# Altium footprint library supercap.PCBLIB: 487 footprints (part 11 of 31)
Each footprint in its own frame and in the unit in brackets; x right, y up, seen from the top. Pads: shape width x height; smd on the part's side, far side on the other; paste and mask are expansions set on the pad; w line width, h text height; cw(c..) or ccw(c..) is an arc to the next point about the centre after c.
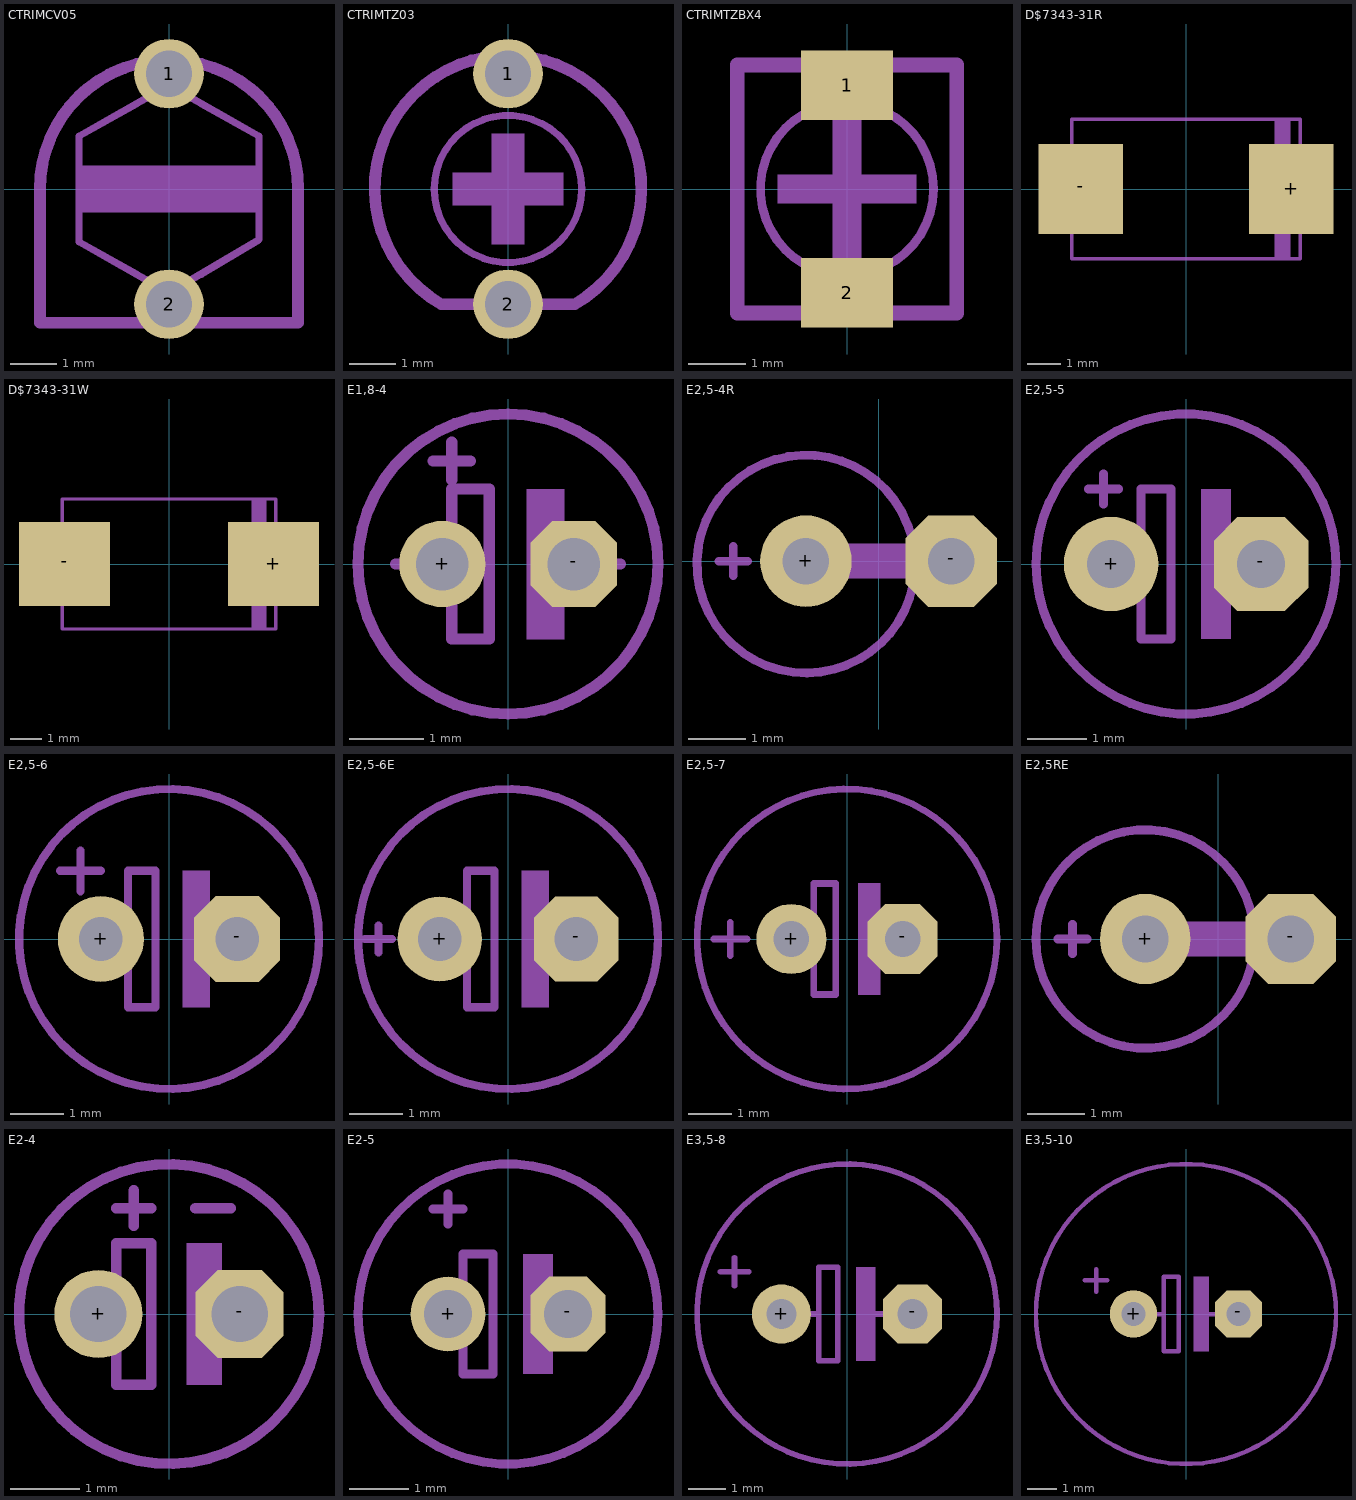
[diagram p10: the footprints below, top view; thin cyan lines are the x and y axes]

## CTRIMCV05 [mm]
pads (2):
  round 1.508 hole 1: 1(0,2.5) 2(0,-2.5)
tDocu:
  lines w0.152: -1.95,-1.15 -1.95,1.15 0,2.25 1.95,1.15 1.95,-1.1 0,-2.25 -1.95,-1.15
  lines w0.254: -2.8,0 cw(c0,0) 2.8,0 ; -1.1,-2.9 1.15,-2.9
tPlace:
  region: -1.9,-0.5 -1.9,0.5 1.95,0.5 1.95,-0.5
  lines w0.152: -0.7,-1.85 -1.95,-1.15 -1.95,1.15 -0.7,1.85 ; 0.7,-1.85 1.95,-1.1 1.95,1.15 0.7,1.85
  lines w0.254: -1.1,-2.9 -2.8,-2.9 -2.8,0 cw(c0,0.004) -1.05,2.6 ; 1.05,2.6 cw(c0,0.004) 2.8,0 2.8,-2.9 1.15,-2.9

## CTRIMTZ03 [mm]
pads (2):
  round 1.508 hole 1: 1(0,2.5) 2(0,-2.5)
tDocu:
  lines w0.254: -1.45,-2.5 1.45,-2.5 ; -1.05,2.7 cw(c0,0) 1.05,2.7
tPlace:
  circle w0.152: c0,0 r1.6
  region: -0.35,-1.2 -0.35,1.2 0.35,1.2 0.35,-1.2
  region: -1.2,-0.35 -1.2,0.35 1.2,0.35 1.2,-0.35
  lines w0.254: -1.45,-2.5 cw(c0,0.004) -1.05,2.7 ; 1.05,2.7 cw(c0,0.004) 1.45,-2.5

## CTRIMTZBX4 [mil]
pads (2):
  rect 62.99x47.24 smd: 1(0,70.87) 2(0,-70.87)
tDocu:
  circle w6: c0,0 r59.06
  region: -9.84,-47.24 -9.84,47.24 9.84,47.24 9.84,-47.24
  region: -47.24,-9.84 -47.24,9.84 47.24,9.84 47.24,-9.84
  lines w10: -74.8,-84.65 -74.8,84.65 74.8,84.65 74.8,-84.65 -74.8,-84.65
tPlace:
  lines w10: -41.34,-84.65 -74.8,-84.65 -74.8,84.65 -41.34,84.65 ; 41.34,-84.65 74.8,-84.65 74.8,84.65 41.34,84.65

## D$7343-31R [mil]
pads (2):
  rect 100.39x106.3 smd: +(125,0) -(-125,0)
tDocu:
  region: -143.7,-47.24 -143.7,47.24 -137.8,47.24 -137.8,-47.24
  region: 137.8,-47.24 137.8,47.24 143.7,47.24 143.7,-47.24
  region: 105.32,-83.66 105.32,83.66 124.02,83.66 124.02,-83.66
  lines w4: -135.83,-82.68 135.83,-82.68 135.83,82.68 -135.83,82.68 -135.83,-82.68

## D$7343-31W [mil]
pads (2):
  rect 116.14x106.3 smd: +(132.87,0) -(-132.87,0)
tDocu:
  region: -143.7,-47.24 -143.7,47.24 -137.8,47.24 -137.8,-47.24
  region: 137.8,-47.24 137.8,47.24 143.7,47.24 143.7,-47.24
  region: 105.32,-83.66 105.32,83.66 124.02,83.66 124.02,-83.66
  lines w4: -135.83,-82.68 135.83,-82.68 135.83,82.68 -135.83,82.68 -135.83,-82.68

## E1,8-4 [mil]
pads (2):
  round 46 hole 28: +(-35,0)
  oct 46x46 / inner round 42.5 / far side oct 46x46 hole 28: -(35,0)
tDocu:
  region: 10,-40 10,40 30,40 30,-40
  lines w6: -60,0 -30,0 ; 25,0 60,0 ; -30,0 -30,-40 -10,-40 -10,40 -30,40 -30,0
tPlace:
  circle w6: c0,0 r80
  lines w6: -40,55 -20,55 ; -30,45 -30,65

## E2,5-4R [mil]
pads (2):
  round 63 hole 32: +(-50,0)
  oct 63x63 / inner round 58.2 / far side oct 63x63 hole 32: -(50,0)
tDocu:
  lines w6: 20,25 cw(c-50,-1.99) 21.27,-25.42
  lines w24: -50,0 50,0
tPlace:
  lines w6: -110,0 -90,0 ; -100,-10 -100,10 ; 20,25 ccw(c-50,-1.99) 21.27,-25.42
  lines w24: -5,0 3,0

## E2,5-5 [mil]
pads (2):
  round 63 hole 32: +(-50,0)
  oct 63x63 / inner round 58.2 / far side oct 63x63 hole 32: -(50,0)
tDocu:
  region: 10,-50 10,50 30,50 30,-50
  lines w6: -65,0 -30,0 ; 25,0 65,0 ; -30,0 -30,-50 -10,-50 -10,50 -30,50 -30,0
tPlace:
  circle w6: c0,0 r100
  lines w6: -65,50 -55,50 ; -55,40 -55,50 ; -55,60 -55,50 ; -45,50 -55,50

## E2,5-6 [mil]
pads (2):
  round 63 hole 32: +(-50,0)
  oct 63x63 / inner round 58.2 / far side oct 63x63 hole 32: -(50,0)
tDocu:
  region: 10,-50 10,50 30,50 30,-50
  lines w6: -65,0 -30,0 ; 25,0 65,0 ; -30,0 -30,-50 -10,-50 -10,50 -30,50 -30,0
tPlace:
  circle w6: c0,0 r110
  lines w6: -80,50 -65,50 ; -65,35 -65,50 ; -65,65 -65,50 ; -50,50 -65,50

## E2,5-6E [mil]
pads (2):
  round 62 hole 32: +(-50,0)
  oct 62x62 / inner round 57.28 / far side oct 62x62 hole 32: -(50,0)
tDocu:
  region: 10,-50 10,50 30,50 30,-50
  lines w6: -65,0 -30,0 ; 25,0 65,0 ; -30,0 -30,-50 -10,-50 -10,50 -30,50 -30,0
tPlace:
  circle w6: c0,0 r110
  lines w6: -105,0 -85,0 ; -95,-10 -95,10

## E2,5-7 [mil]
pads (2):
  round 63 hole 32: +(-50,0)
  oct 63x63 / inner round 58.2 / far side oct 63x63 hole 32: -(50,0)
tDocu:
  region: 10,-50 10,50 30,50 30,-50
  lines w6: -65,0 -30,0 ; 25,0 65,0 ; -30,0 -30,-50 -10,-50 -10,50 -30,50 -30,0
tPlace:
  circle w6: c0,0 r135
  lines w6: -120,0 -90,0 ; -105,-15 -105,15

## E2,5RE [mil]
pads (2):
  round 62 hole 32: +(-50,0)
  oct 62x62 / inner round 57.28 / far side oct 62x62 hole 32: -(50,0)
tDocu:
  lines w6: 10,-45 ccw(c-50,0) 10,45
  lines w24: -50,0 50,0
tPlace:
  lines w6: -110,0 -90,0 ; -100,-10 -100,10 ; 10,-45 cw(c-50,0) 10,45
  lines w24: -5,0 3,0

## E2-4 [mil]
pads (2):
  round 50 hole 32: +(-40,0)
  oct 50x50 / inner round 46.19 / far side oct 50x50 hole 32: -(40,0)
tDocu:
  region: 10,-40 10,40 30,40 30,-40
  lines w6: -60,0 -30,0 ; 25,0 60,0 ; -30,0 -30,-40 -10,-40 -10,40 -30,40 -30,0
tPlace:
  circle w6: c0,0 r85
  lines w6: -30,60 -10,60 ; -20,50 -20,70 ; 15,60 35,60

## E2-5 [mil]
pads (2):
  round 50 hole 32: +(-40,0)
  oct 50x50 / inner round 46.19 / far side oct 50x50 hole 32: -(40,0)
tDocu:
  region: 10,-40 10,40 30,40 30,-40
  lines w6: -60,0 -30,0 ; 25,0 60,0 ; -30,0 -30,-40 -10,-40 -10,40 -30,40 -30,0
tPlace:
  circle w6: c0,0 r100
  lines w6: -50,70 -30,70 ; -40,60 -40,80

## E3,5-8 [mil]
pads (2):
  round 63 hole 32: +(-70,0)
  oct 63x63 / inner round 58.2 / far side oct 63x63 hole 32: -(70,0)
tDocu:
  region: 10,-50 10,50 30,50 30,-50
  lines w6: -65,0 -30,0 ; 25,0 65,0 ; -30,0 -30,-50 -10,-50 -10,50 -30,50 -30,0
tPlace:
  circle w6: c0,0 r160
  lines w6: -135,45 -105,45 ; -120,30 -120,60

## E3,5-10 [mil]
pads (2):
  round 63 hole 32: +(-70,0)
  oct 63x63 / inner round 58.2 / far side oct 63x63 hole 32: -(70,0)
tDocu:
  region: 10,-50 10,50 30,50 30,-50
  lines w6: -65,0 -30,0 ; 25,0 65,0 ; -30,0 -30,-50 -10,-50 -10,50 -30,50 -30,0
tPlace:
  circle w6: c0,0 r200
  lines w6: -135,45 -105,45 ; -120,30 -120,60